# Altium footprint library Smart_Gateway_Rev1.0_2.PcbLib: 45 footprints (part 1 of 3)
Each footprint in its own frame and in the unit in brackets; x right, y up, seen from the top. Pads: shape width x height; smd on the part's side, far side on the other; paste and mask are expansions set on the pad; w line width, h text height; cw(c..) or ccw(c..) is an arc to the next point about the centre after c.
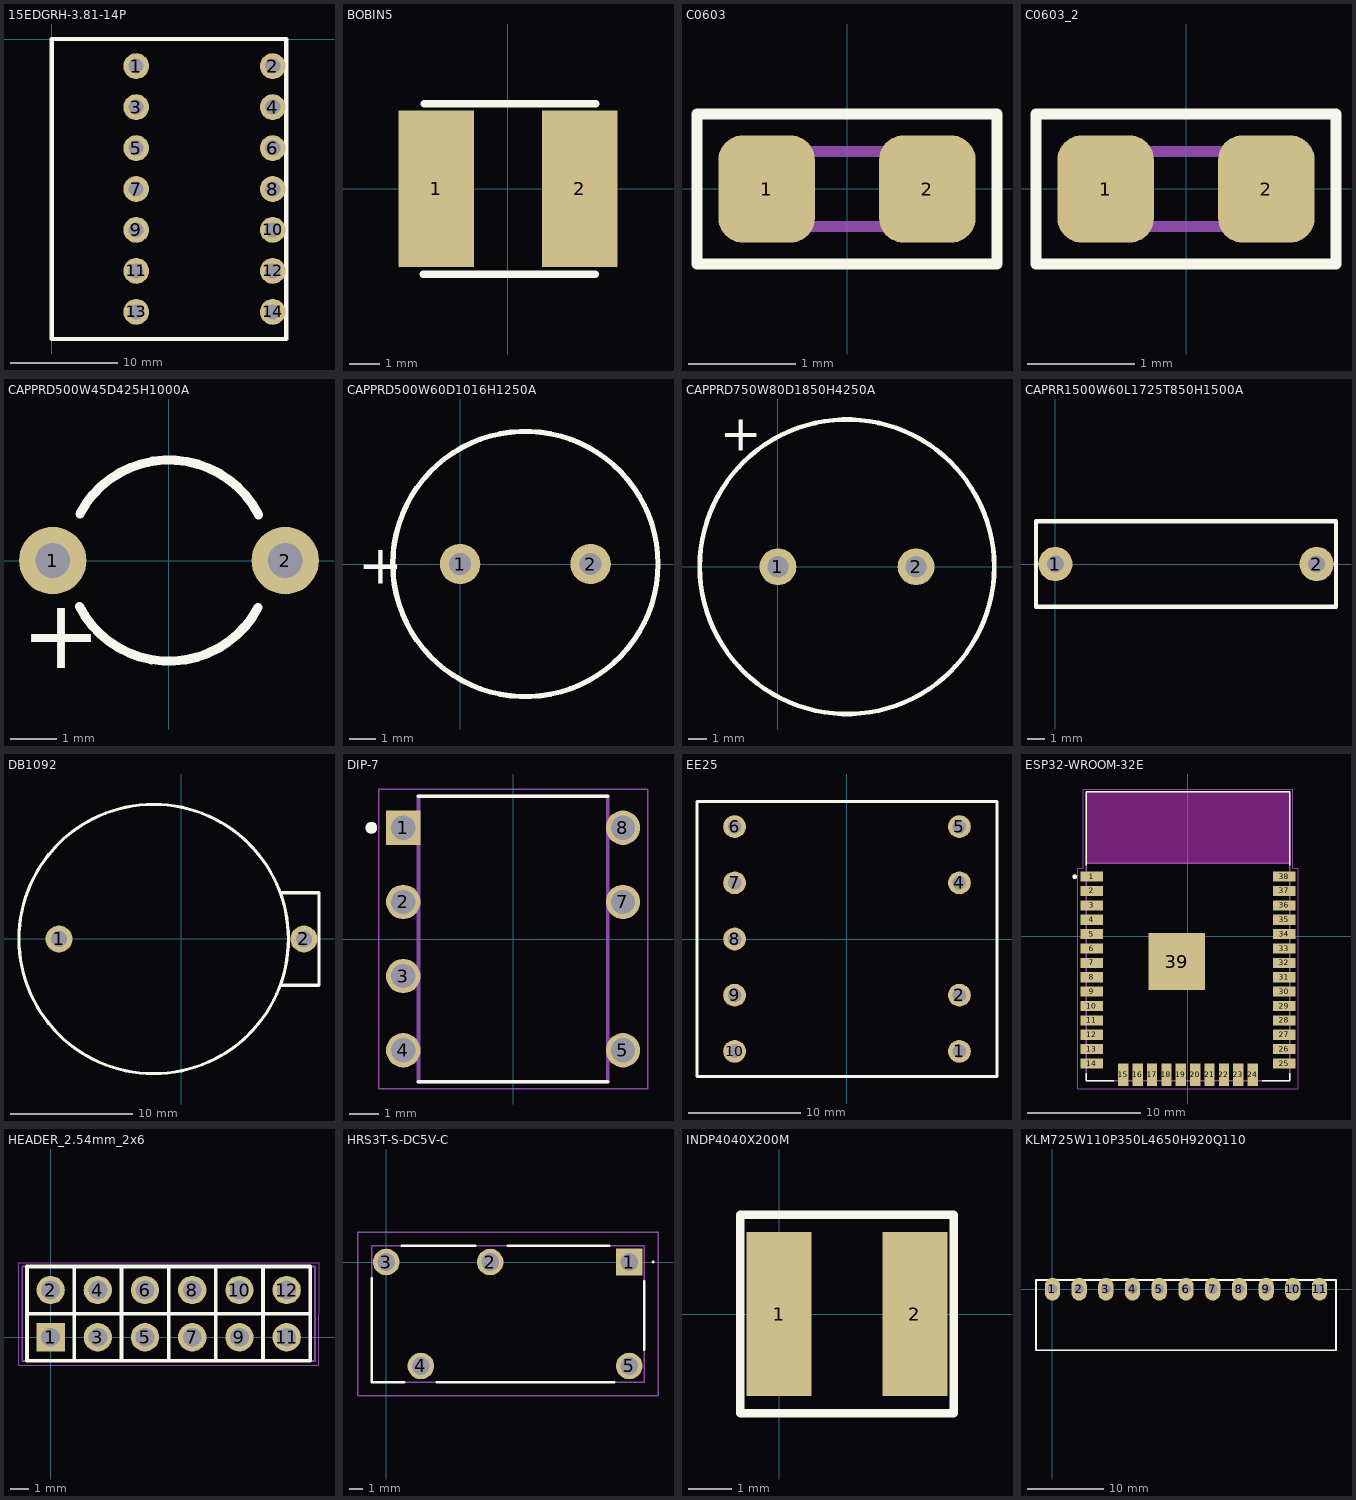
[diagram p0: the footprints below, top view; thin cyan lines are the x and y axes]

## 15EDGRH-3.81-14P [mm]
pads (14):
  round 2.4 hole 1.4: 1(7.85,-2.525) 2(20.55,-2.525) 3(7.85,-6.335) 4(20.55,-6.335) 5(7.85,-10.145) 6(20.55,-10.145) 7(7.85,-13.955) 8(20.55,-13.955) 9(7.85,-17.765) 10(20.55,-17.765) 11(7.85,-21.575) 12(20.55,-21.575) 13(7.85,-25.385) 14(20.55,-25.385)
Top Overlay:
  lines w0.4: 0,-27.91 21.8,-27.91 21.8,0 0,0 0,-27.91
3D body "15EDGRH-3.81-14P-1Y-00A&Z(H).stp": height 22.7, standoff -3.5, extent 0,-27.91 21.8,0

## BOBIN5 [mm]
pads (2):
  rect 2.5x5.2 smd: 1(-2.371,0) 2(2.371,0)
Top Overlay:
  lines w0.254: -2.803,-2.838 2.887,-2.838 ; -2.777,2.819 2.912,2.819
3D body "User Library-SDR0504.step": height 4.5, standoff 0, extent -2.853,-2.6 2.904,2.6

## C0603 [mm]
pads (2):
  rrect50% 0.9x1 smd: 1(-0.75,0) 2(0.75,0)
Top Overlay:
  lines w0.1: -1.4,-0.7 -1.4,0.7 1.4,0.7 1.4,-0.7 -1.4,-0.7
Mechanical 13:
  rectangle: -0.5,0.3 0.5,0.4
  rectangle: -0.5,-0.4 0.5,-0.3
  rectangle: 0.5,-0.4 0.8,0.4
  rectangle: -0.8,-0.4 -0.5,0.4
Mechanical 15:
  lines w0.05: -1.4,-0.7 1.4,-0.7 1.4,0.7 -1.4,0.7 -1.4,-0.7
  text ".Designator" at -1.1,-0.1 h0.5
3D body "cap_0603.STEP": height 0.87, standoff -0.01, extent -0.8,-0.405 0.8,0.405

## C0603_2 [mm]
pads (2):
  rrect50% 0.9x1 smd: 1(-0.75,0) 2(0.75,0)
Top Overlay:
  lines w0.1: -1.4,-0.7 -1.4,0.7 1.4,0.7 1.4,-0.7 -1.4,-0.7
Mechanical 13:
  rectangle: -0.5,0.3 0.5,0.4
  rectangle: -0.5,-0.4 0.5,-0.3
  rectangle: 0.5,-0.4 0.8,0.4
  rectangle: -0.8,-0.4 -0.5,0.4
Mechanical 15:
  lines w0.05: -1.4,-0.7 1.4,-0.7 1.4,0.7 -1.4,0.7 -1.4,-0.7
  text ".Designator" at -1.1,-0.1 h0.5
3D body "cap_0603.STEP": height 0.87, standoff -0.01, extent -0.8,-0.405 0.8,0.405

## CAPPRD500W45D425H1000A [mm] "Capacitor, Electrolytic, Radial; Body 5 x 11.5 mm (Dia.xH typ); Pin Spacing 5 mm"
height 10
pads (2):
  round 1.45 hole 0.75: 1(-2.5,0) 2(2.5,0)
Top Overlay:
  lines w0.2: -1.925,-0.987 ccw(c0,0) 1.914,-1.008 ; -1.914,1.008 cw(c0,0) 1.925,0.987
  text "+" at -3.179,-2.311 h1.5

## CAPPRD500W60D1016H1250A [mm] "Capacitor, Electrolytic, Radial; Body 10.16x 13.35 mm (Dia.xH typ); Pin Spacing 5 mm"
height 13.35
pads (2):
  round 1.55 hole 0.85: 1(0,0) 2(5,0)
Top Overlay:
  circle w0.2: c2.5,0 r5.08
  text "+" at -3.912,-0.762 h1.5
3D body "User Library-Capacitor Radial ElectroliticCAPPR500-1000X1250.STEP": height 12.51, standoff -2.7, extent -2.46,-5 7.507,5

## CAPPRD750W80D1850H4250A [mm] "Capacitor, Electrolytic, Radial; Body 5 x 7.5 mm (Dia.xH typ); Pin Spacing 2.54 mm"
height 7.5
pads (2):
  round 2 hole 1.15: 1(0,0) 2(7.5,0)
Top Overlay:
  circle w0.254: c3.75,0 r8
  text "+" at -3.15,6.299 h2
3D body "User Library-Cap-EL(16x26-7_5).step": height 26, standoff -4.3, extent -4.25,-7.996 11.752,7.996

## CAPRR1500W60L1725T850H1500A [mm]
pads (2):
  round 2 hole 1: 1(0,0) 2(15.24,0)
Top Overlay:
  lines w0.254: -1.13,-2.5 16.37,-2.5 16.37,2.5 -1.13,2.5 -1.13,-2.5
3D body: height 10, standoff 0.1, extent -1.13,-2.5 16.37,2.5

## DB1092 [mm]
pads (2):
  round 2.2 hole 1.3: 1(-10,0) 2(10,0)
Top Overlay:
  circle w0.254: c-2.269,0 r11
  lines w0.254: 8.161,3.775 11.231,3.775 11.231,-3.775 8.207,-3.775
3D body "User Library-CR2032_HOR_HOLD.step": height 8.5, standoff -4, extent -13.269,-11 11.231,11

## DIP-7 [mm]
pads (7):
  rect 1.18x1.18 hole 0.83: 1(-3.765,3.81)
  round 1.18 hole 0.83: 2(-3.765,1.27) 3(-3.765,-1.27) 4(-3.765,-3.81) 5(3.765,-3.81) 7(3.765,1.27) 8(3.765,3.81)
Top Overlay:
  circle w0.2: c-4.855,3.81 r0.1
  lines w0.127: -3.238,-4.889 3.238,-4.889 ; -3.238,4.889 3.238,4.889
Mechanical 13:
  circle w0.2: c-4.855,3.81 r0.1
  lines w0.127: -3.238,-4.889 -3.238,4.889 3.238,4.889 3.238,-4.889 -3.238,-4.889
Mechanical 15:
  lines w0.05: -4.605,-5.139 -4.605,5.139 4.605,5.139 4.605,-5.139 -4.605,-5.139
3D body "User Library-DIP-8P-M01.step": height 4.36, standoff -3, extent -3.9,-4.75 3.97,4.65

## EE25 [mm] "PI_BOBBIN_EE16_7P"
pads (9):
  round 2.032 hole 1.2: 1(10,-10) 2(10,-5) 4(10,5) 5(10,10) 6(-10,10) 7(-10,5) 8(-10,0) 9(-10,-5) 10(-10,-10)
Top Overlay:
  lines w0.254: -13.35,12.25 -13.35,-12.25 13.35,-12.25 ; -13.325,12.25 13.325,12.25 ; 13.35,-12.225 13.35,12.25
3D body "User Library-EF25_10_6 5x2 pins horizontal.STEP": height 17.8, standoff -3.8, extent -11.835,-12.785 12.165,13.315

## ESP32-WROOM-32E [mm]
pads (39):
  rect 2x0.9 smd: 1(-8.5,5.26) 2(-8.5,3.99) 3(-8.5,2.72) 4(-8.5,1.45) 5(-8.5,0.18) 6(-8.5,-1.09) 7(-8.5,-2.36) 8(-8.5,-3.63) 9(-8.5,-4.9) 10(-8.5,-6.17) 11(-8.5,-7.44) 12(-8.5,-8.71) 13(-8.5,-9.98) 14(-8.5,-11.25) 25(8.5,-11.25) 26(8.5,-9.98) 27(8.5,-8.71) 28(8.5,-7.44) 29(8.5,-6.17) 30(8.5,-4.9) 31(8.5,-3.63) 32(8.5,-2.36) 33(8.5,-1.09) 34(8.5,0.18) 35(8.5,1.45) 36(8.5,2.72) 37(8.5,3.99) 38(8.5,5.26)
  rect 0.9x2 smd: 15(-5.715,-12.25) 16(-4.445,-12.25) 17(-3.175,-12.25) 18(-1.905,-12.25) 19(-0.635,-12.25) 20(0.635,-12.25) 21(1.905,-12.25) 22(3.175,-12.25) 23(4.445,-12.25) 24(5.715,-12.25)
  rect 5x5 smd paste-3: 39(-1,-2.24)
Top Overlay:
  circle w0.2: c-10,5.25 r0.1
  lines w0.127: -9,-12.1 -9,-12.75 -6.55,-12.75 ; -9,6.25 -9,12.75 9,12.75 9,6.25 ; 6.55,-12.75 9,-12.75 9,-12.1
Top Paste:
  region: -1.46,-1.78 -3.04,-1.78 -3.04,-0.2 -1.46,-0.2
  region: 1.04,-1.78 -0.54,-1.78 -0.54,-0.2 1.04,-0.2
  region: 1.04,-4.28 -0.54,-4.28 -0.54,-2.7 1.04,-2.7
  region: -1.46,-4.28 -3.04,-4.28 -3.04,-2.7 -1.46,-2.7
Keep-Out Layer:
  region: 9,6.45 -9,6.45 -9,12.75 9,12.75
  region: 9,6.45 -9,6.45 -9,12.75 9,12.75
Mechanical 13:
  circle w0.2: c-10,5.25 r0.1
  lines w0.127: -9,6.45 -9,-12.75 9,-12.75 9,6.45 ; -9,6.45 -9,12.75 9,12.75 9,6.45 ; -9,6.45 9,6.45
  text "ANTENNA" at -6,9 h1.78
Mechanical 15:
  lines w0.05: -9.75,-13.5 9.75,-13.5 9.75,6 9.25,6 9.25,13 -9.25,13 -9.25,6 -9.75,6 -9.75,-13.5
3D body "ESP32-WROOM-32 (8MB)--3DModel-STEP-56544.STEP": height 3.2, standoff 0, extent -9,-12.75 9,12.75

## HEADER_2.54mm_2x6 [mil]
pads (12):
  rect 60x60 hole 40: 1(0,0)
  round 60 hole 40: 2(0,100) 3(100,0) 4(100,100) 5(200,0) 6(200,100) 7(300,0) 8(300,100) 9(400,0) 10(400,100) 11(500,0) 12(500,100)
Top Overlay:
  lines w7.87: 550,50 450,50 ; -50,50 50,50 ; -50,50 -50,-50 50,-50 ; -50,50 -50,150 50,150 ; -50,50 50,50 ; 50,-50 50,50 ; 50,-50 50,50 ; 50,-50 150,-50 ; 50,50 150,50 ; 50,50 150,50 ; 50,50 50,150 ; 50,50 50,150 ; 50,150 150,150 ; 150,-50 150,50 ; 150,-50 250,-50 ; 150,-50 150,50 ; 150,50 250,50 ; 150,50 150,150 ; 150,50 250,50 ; 150,50 150,150 ; 150,150 250,150 ; 250,-50 250,150 ; 250,-50 250,50 ; 250,-50 350,-50 ; 250,-50 250,50 ; 250,50 250,150 ; 250,50 350,50 ; 250,50 250,150 ; 250,50 350,50 ; 250,150 350,150 ; 350,-50 350,150 ; 350,-50 350,50 ; 350,-50 450,-50 ; 350,-50 350,50 ; 350,50 350,150 ; 350,50 450,50 ; 350,50 350,150 ; 350,50 450,50 ; 350,150 450,150 ; 450,-50 450,150 ; 450,-50 550,-50 550,150 450,150
Mechanical 13:
  lines w3.94: -60,-50 560,-50 560,150 -60,150 -60,-50
Mechanical 15:
  lines w1.97: -66.93,-59.06 568.5,-59.06 568.5,157.48 -66.93,157.48 -66.93,-59.06
  text ".Designator" at 27.56,35.43 h78.74
3D body "_ _ _C062LFBN-RC.STEP": height 334.65, standoff -125.98, extent -60,-50 559.68,150

## HRS3T-S-DC5V-C [mm]
pads (5):
  rect 1.95x1.95 hole 1.3: 1(17.82,0)
  round 1.95 hole 1.3: 2(7.62,0) 3(0,0) 4(2.54,-7.62) 5(17.82,-7.62)
Top Overlay:
  lines w0.1: 19.52,0 cw(c19.57,0) 19.62,0 cw(c19.57,0) 19.52,0
  lines w0.2: -1.07,-1.21 -1.07,-8.81 1.33,-8.81 ; 1.13,1.19 6.53,1.19 ; 3.73,-8.81 16.73,-8.81 ; 8.93,1.19 16.33,1.19 ; 18.93,-6.41 18.93,-1.41
Mechanical 13:
  lines w0.1: -1.07,-8.81 -1.07,1.19 18.93,1.19 18.93,-8.81 -1.07,-8.81
Mechanical 15:
  lines w0.1: -2.07,-9.81 -2.07,2.19 19.93,2.19 19.93,-9.81 -2.07,-9.81
3D body "JQ1-5V-F.stp": height 16.5, standoff -5, extent -1.07,-8.81 18.93,1.19

## INDP4040X200M [mm]
pads (2):
  rect 1.5x3.8 smd: 1(0,0) 2(3.15,0)
Top Overlay:
  lines w0.2: -0.897,-2.3 4.047,-2.3 4.047,2.3 -0.897,2.3 -0.897,-2.3
3D body "Coilcraft-XFL4015-DEFAULT.STEP": height 1.5, standoff -0.1, extent -0.586,-2.125 3.714,2.175

## KLM725W110P350L4650H920Q110 [mm]
height 20
pads (11):
  oval 2x3 hole 1.3: 1(0,0) 2(3.5,0) 3(7,0) 4(10.5,0) 5(14,0) 6(17.5,0) 7(21,0) 8(24.5,0) 9(28,0) 10(31.5,0) 11(35,0)
Top Overlay:
  lines w0.254: -2.15,-8 -2.15,1.2 37.15,1.2 37.15,-8 -2.15,-8
3D body "PV11-3,5-H-P.stp": height 7.26, standoff -3.39, extent -2.15,-8 37.15,1.2